# Altium footprint library Other.PcbLib: 35 footprints (part 2 of 3)
Each footprint in its own frame and in the unit in brackets; x right, y up, seen from the top. Pads: shape width x height; smd on the part's side, far side on the other; paste and mask are expansions set on the pad; w line width, h text height; cw(c..) or ccw(c..) is an arc to the next point about the centre after c.
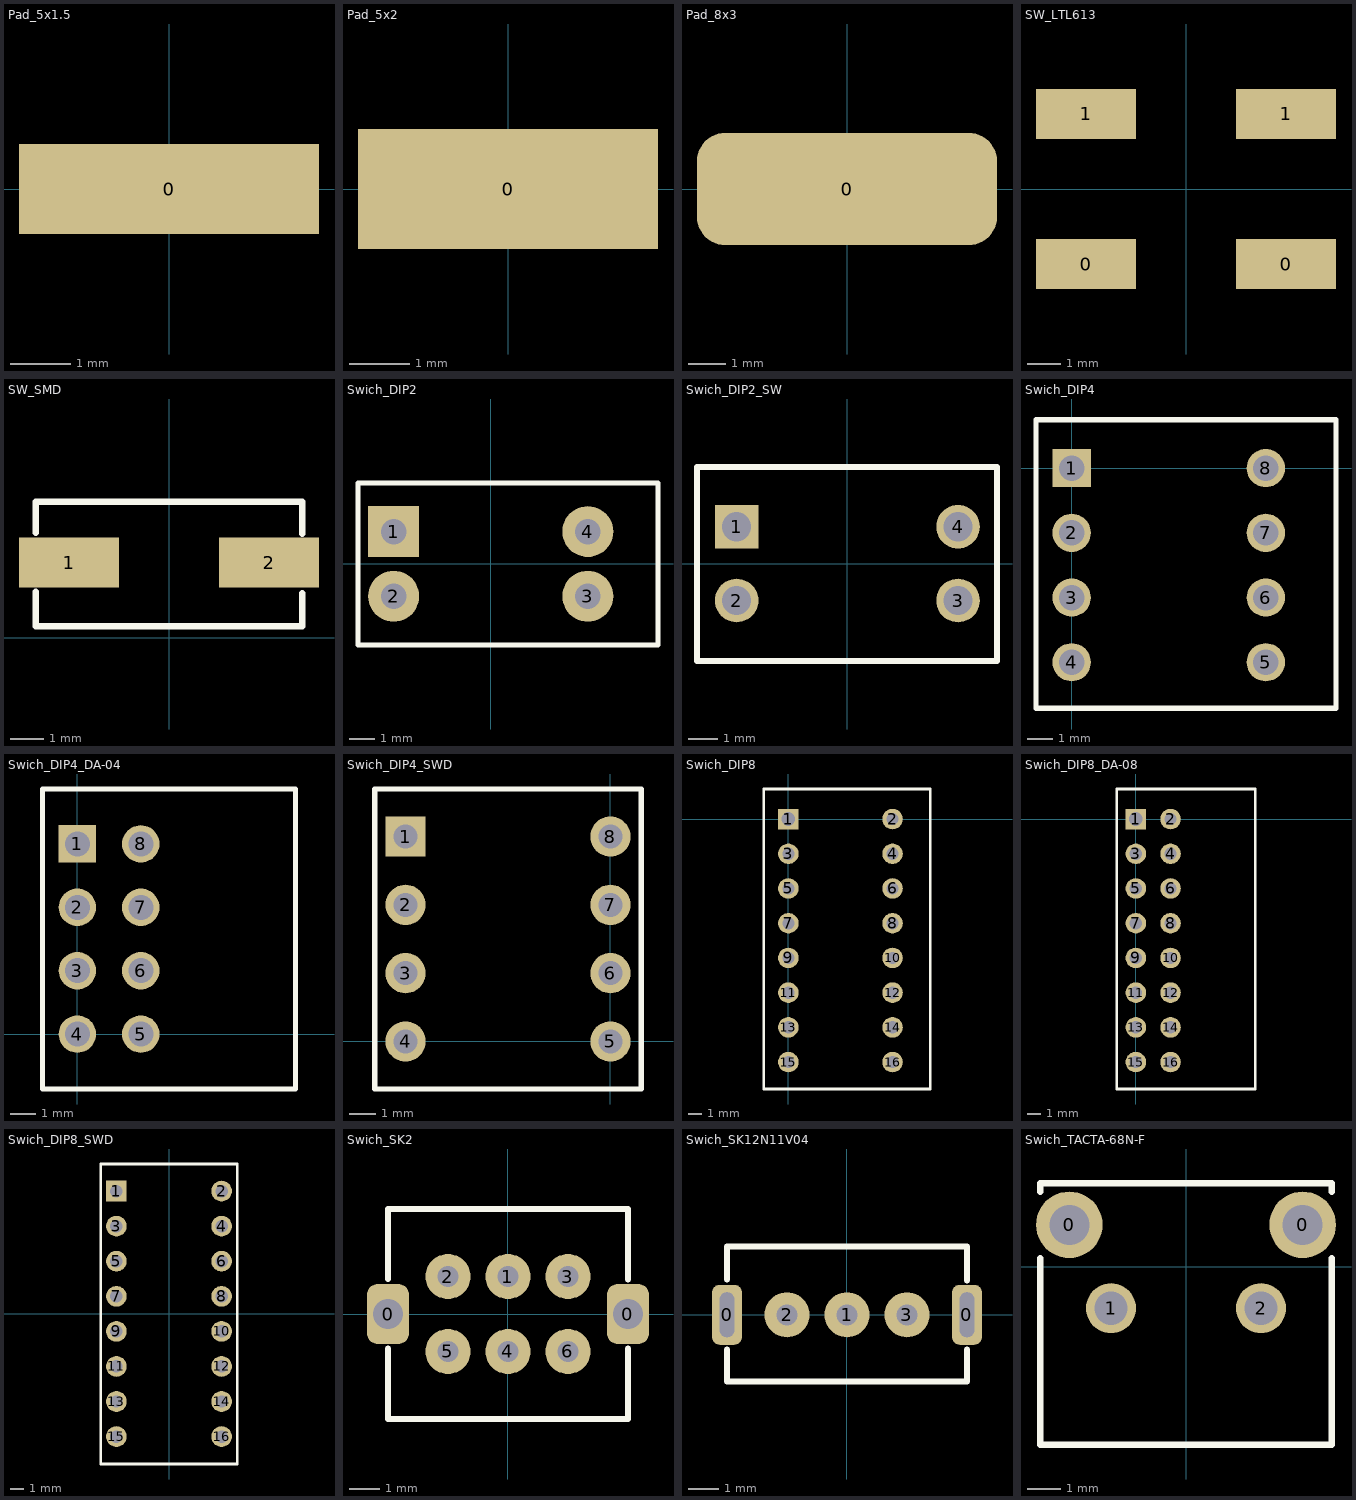
[diagram p1: the footprints below, top view; thin cyan lines are the x and y axes]

## Pad_5x1.5 [mm]
pads (1):
  rect 5x1.5 smd: 0(0,0)

## Pad_5x2 [mm]
pads (1):
  rect 5x2 smd: 0(0,0)

## Pad_8x3 [mm]
pads (1):
  rrect50% 8x3 smd: 0(0,0)

## SW_LTL613 [mm]
pads (4):
  rect 3x1.5 smd: 0(-3,-2.25) 0(3,-2.25) 1(-3,2.25) 1(3,2.25)

## SW_SMD [mm]
pads (2):
  rect 3x1.5 smd: 1(-3,2.25) 2(3,2.25)
Top Overlay:
  lines w0.2: -4,1.375 -4,0.35 4,0.35 4,1.325 ; -4,3.15 -4,4.075 4,4.075 4,3.125

## Swich_DIP2 [mm]
pads (4):
  rect 2x2 hole 1: 1(-3.81,1.27)
  round 2 hole 1: 2(-3.81,-1.27) 3(3.81,-1.27) 4(3.81,1.27)
Top Overlay:
  lines w0.2: -5.21,-3.18 -5.21,3.17 6.565,3.17 6.565,-3.18 -5.21,-3.18
3D body "Switch-Piano-DIP-2.STEP": height 9, standoff -4, extent -4.925,-3 6.425,3

## Swich_DIP2_SW [mm]
pads (4):
  rect 1.5x1.5 hole 1: 1(-3.81,1.27)
  round 1.5 hole 1: 2(-3.81,-1.27) 3(3.81,-1.27) 4(3.81,1.27)
Top Overlay:
  lines w0.2: -5.175,-3.35 -5.175,3.325 5.15,3.325 5.15,-3.35 -5.175,-3.35
3D body "DIPSWITCH_2.STEP": height 6.9, standoff -3.2, extent -5.105,-3.3 5.055,3.3

## Swich_DIP4 [mm]
pads (8):
  rect 1.5x1.5 hole 1: 1(0,0)
  round 1.5 hole 1: 2(0,-2.54) 3(0,-5.08) 4(0,-7.62) 5(7.62,-7.62) 6(7.62,-5.08) 7(7.62,-2.54) 8(7.62,0)
Top Overlay:
  lines w0.2: -1.4,-9.425 -1.4,1.9 10.375,1.9 10.375,-9.425 -1.4,-9.425

## Swich_DIP4_DA-04 [mm]
pads (8):
  rect 1.5x1.5 hole 1: 1(0,7.62)
  round 1.5 hole 1: 2(0,5.08) 3(0,2.54) 4(0,0) 5(2.54,0) 6(2.54,2.54) 7(2.54,5.08) 8(2.54,7.62)
Top Overlay:
  lines w0.2: -1.4,-2.2 -1.4,9.82 8.74,9.82 8.74,-2.2 -1.4,-2.2

## Swich_DIP4_SWD [mm]
pads (8):
  rect 1.5x1.5 hole 0.9: 1(-7.62,7.62)
  round 1.5 hole 0.9: 2(-7.62,5.08) 3(-7.62,2.54) 4(-7.62,0) 5(0,0) 6(0,2.54) 7(0,5.08) 8(0,7.62)
Top Overlay:
  lines w0.2: -8.76,-1.77 -8.76,9.39 -3.81,9.39 1.14,9.39 1.14,-1.77 -8.76,-1.77

## Swich_DIP8 [mm]
pads (16):
  rect 1.5x1.5 hole 1: 1(0,0)
  round 1.5 hole 0.9: 2(7.62,0) 3(0,-2.54) 4(7.62,-2.54) 5(0,-5.08) 6(7.62,-5.08) 7(0,-7.62) 8(7.62,-7.62) 9(0,-10.16) 10(7.62,-10.16) 11(0,-12.7) 12(7.62,-12.7) 13(0,-15.24) 14(7.62,-15.24) 15(0,-17.78) 16(7.62,-17.78)
Top Overlay:
  lines w0.2: -1.8,-19.75 10.375,-19.75 10.375,2.2 -1.8,2.2 -1.8,-19.75

## Swich_DIP8_DA-08 [mm]
pads (16):
  rect 1.5x1.5 hole 1: 1(0,0)
  round 1.5 hole 0.9: 2(2.54,0) 3(0,-2.54) 4(2.54,-2.54) 5(0,-5.08) 6(2.54,-5.08) 7(0,-7.62) 8(2.54,-7.62) 9(0,-10.16) 10(2.54,-10.16) 11(0,-12.7) 12(2.54,-12.7) 13(0,-15.24) 14(2.54,-15.24) 15(0,-17.78) 16(2.54,-17.78)
Top Overlay:
  lines w0.2: -1.4,-19.75 -1.4,2.2 8.74,2.2 8.74,-19.75 -1.4,-19.75

## Swich_DIP8_SWD [mm]
pads (16):
  rect 1.5x1.5 hole 0.9: 1(-3.81,8.89)
  round 1.5 hole 0.9: 2(3.81,8.89) 3(-3.81,6.35) 4(3.81,6.35) 5(-3.81,3.81) 6(3.81,3.81) 7(-3.81,1.27) 8(3.81,1.27) 9(-3.81,-1.27) 10(3.81,-1.27) 11(-3.81,-3.81) 12(3.81,-3.81) 13(-3.81,-6.35) 14(3.81,-6.35) 15(-3.81,-8.89) 16(3.81,-8.89)
Top Overlay:
  lines w0.2: -4.95,-10.875 4.95,-10.875 4.95,10.85 -4.95,10.85 -4.95,-10.875
3D body "DIPSWITCH_8.STEP": height 6.9, standoff -3.2, extent -5.075,-10.975 5.085,10.925

## Swich_SK2 [mm]
pads (8):
  rrect50% 1.4x2 hole 1: 0(-4,0) 0(4,0)
  round 1.5 hole 0.7: 1(0,1.25) 2(-2,1.25) 3(2,1.25) 4(0,-1.25) 5(-2,-1.25) 6(2,-1.25)
Top Overlay:
  lines w0.2: -4,-1.15 -4,-3.5 4,-3.5 4,-1.15 ; -4,1.175 -4,3.5 4,3.5 4,1.15

## Swich_SK12N11V04 [mm]
pads (5):
  rrect50% 1x2 hole 0.5 slot 1.5 at 90 deg: 0(-4,0) 0(4,0)
  round 1.5 hole 0.7: 1(0,0) 2(-2,0) 3(2,0)
Top Overlay:
  lines w0.2: -4,-1.15 -4,-2.225 4,-2.225 4,-1.15 ; -4,1.175 -4,2.275 4,2.275 4,1.15

## Swich_TACTA-68N-F [mm]
pads (4):
  round 2 hole 1.2: 0(-3.5,1.25) 0(3.5,1.25)
  round 1.5 hole 1: 1(-2.25,-1.25) 2(2.25,-1.25)
Top Overlay:
  lines w0.2: -4.375,2.25 -4.375,2.5 ; 4.325,-5.35 -4.375,-5.35 -4.375,0.25 ; 4.325,2.5 -4.375,2.5 ; 4.375,-5.35 4.375,0.25 ; 4.375,2.25 4.375,2.5 ; -4.375,0.25 -4.375,0.25 ; -4.375,2.5 -4.375,2.5
3D body "SW3dPS-Alps TACT SKHH Horizontal Switch.STEP": height 7.37, standoff -3.5, extent -4.154,-5.22 4.209,2.75